# Altium schematic symbol library FXL0420-2R2-M.SchLib: 1 symbol
Pins are listed as number, name and electrical type; pins without a type are passive.

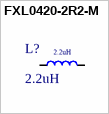
[diagram p0: symbol FXL0420-2R2-M]

## FXL0420-2R2-M
designator L?, comment 2.2uH
C167206 / 4.5A 2.2uH Integrated molded inductor ±20% 5A SMD,4.2x4.4mm Power Inductors ROHS
footprint FXL0420-2R2-M
pins: 1, 2